# Altium schematic symbol library Schlib_ECS.SchLib: 1 symbol
Pins are listed as number, name and electrical type; pins without a type are passive.

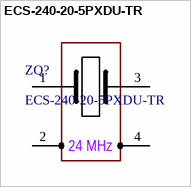
[diagram p0: symbol ECS-240-20-5PXDU-TR]

## ECS-240-20-5PXDU-TR
designator ZQ?
24 MHz crystal resonator ±100ppm; Manufacturer: ECS Inc.; Load Capacitance: 20pF; Equivalent Series Resistance: 30 Ohm; Part Number: ECS-240-20-5PXDU-TR; Package: SMD3225 (3.20mm x 2.50mm)
pins: 1 XTAL0, 2 GND (power), 3 XTAL1, 4 GND (power)
text: 24 MHz